# EAGLE library part PAM8301 (library pimoroni-ics)
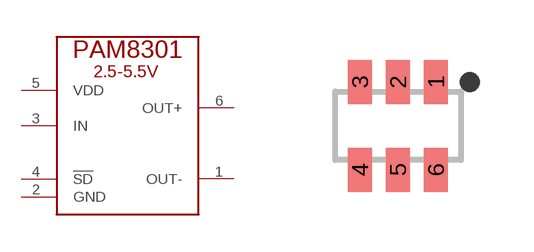
[diagram p104: symbol with the pads of SOT-23-6; footprint SOT-23-6]

Designator prefix U

## PAM8301  [SOT-23-6]
1  OUT-
2  GND
3  IN
4  !SD
5  VDD
6  OUT+

## Footprint SOT-23-6 (pad centres in mm)
smd 0.6 x 1.1: 1 0.95,1.1; 2 0,1.1; 3 -0.95,1.1; 4 -0.95,-1.1; 5 0,-1.1; 6 0.95,-1.1